# Altium footprint library PcbLib2.PcbLib: 11 footprints
Each footprint in its own frame and in the unit in brackets; x right, y up, seen from the top. Pads: shape width x height; smd on the part's side, far side on the other; paste and mask are expansions set on the pad; w line width, h text height; cw(c..) or ccw(c..) is an arc to the next point about the centre after c.
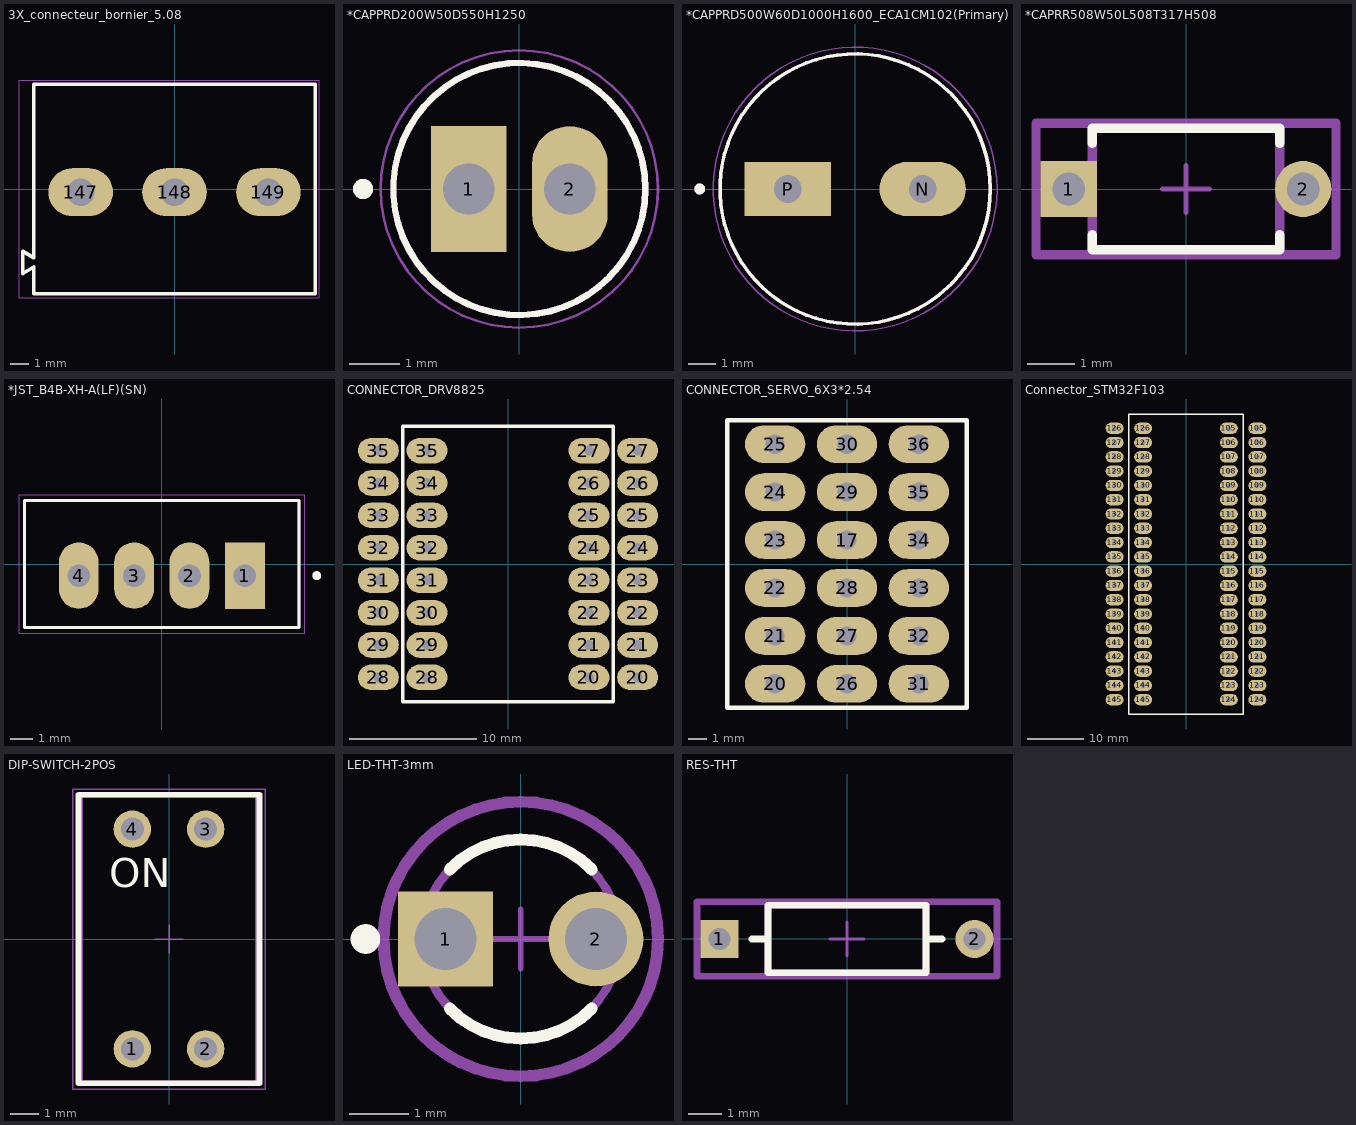
[diagram p0: the footprints below, top view; thin cyan lines are the x and y axes]

## 3X_connecteur_bornier_5.08 [mm] "Horizontal Cable Entry with Rising Cage Clamp, pitch 5.08mm, 03p"
height 18
pads (3):
  oval 3.5x2.6 hole 1.5: 147(-5.08,-0.175) 148(0,-0.175) 149(5.08,-0.175)
Top Overlay:
  lines w0.2: -7.621,-4.223 -8.22,-4.575 -8.22,-3.375 -7.621,-3.727 ; -7.62,-4.225 -7.62,-5.675 7.62,-5.675 7.62,5.675 -7.62,5.675 -7.62,-3.726
Top Component Center:
  lines w0.1: -0.5,0 0.5,0 ; 0,-0.5 0,0.5
Top Assembly:
  lines w0.1: -7.621,-4.223 -8.22,-4.575 -8.22,-3.375 -7.621,-3.727 ; -7.62,-4.225 -7.62,-5.675 7.62,-5.675 7.62,5.675 -7.62,5.675 -7.62,-3.726
Top Designator:
  text ".Designator" at -3.647,-0.357 h1
Top 3D Body:
  lines w0.1: -7.621,-4.223 -8.22,-4.575 -8.22,-3.375 -7.621,-3.727 ; -7.62,-4.225 -7.62,-5.675 7.62,-5.675 7.62,5.675 -7.62,5.675 -7.62,-3.726
Top Courtyard:
  lines w0.05: -8.42,-5.875 -8.42,5.875 7.82,5.875 7.82,-5.875 -8.42,-5.875
3D body "691236510003.stp": height 18.1, standoff -3.9, extent -8.22,-5.675 7.62,5.675

## *CAPPRD200W50D550H1250 [mm]
pads (2):
  rect 1.5x2.5 hole 1.02: 1(-1,0)
  oval 1.5x2.5 hole 1.02: 2(1,0)
Top Overlay:
  circle w0.2: c-3.1,0 r0.1
  circle w0.127: c0,0 r2.5
Mechanical 4:
  circle w0.2: c-3.1,0 r0.1
  circle w0.127: c0,0 r2.5
  circle w0.2: c-3.1,0 r0.1
  circle w0.127: c0,0 r2.5
Mechanical 16:
  circle w0.05: c0,0 r2.75
3D body "UVR1E100MDD.STEP": height 12.5, standoff -19, extent -2.5,-2.499 2.5,2.5

## *CAPPRD500W60D1000H1600_ECA1CM102(Primary) [mm]
pads (2):
  oval 3.2x2 hole 1.02: N(2.5,0)
  rect 3.2x2 hole 1.02: P(-2.5,0)
Top Overlay:
  circle w0.2: c-5.75,0 r0.1
  circle w0.127: c0,0 r5
Mechanical 4:
  circle w0.2: c-5.75,0 r0.1
  circle w0.127: c0,0 r5
  circle w0.2: c-5.75,0 r0.1
  circle w0.127: c0,0 r5
Mechanical 16:
  circle w0.05: c0,0 r5.25
3D body "ECA1CM102.STEP": height 16, standoff -17, extent -5,-4.999 5,4.999

## *CAPRR508W50L508T317H508 [mm]
pads (2):
  rect 1.2x1.2 hole 0.7 paste-2539.97 mask+0: 1(-2.5,0)
  round 1.2 hole 0.7 paste-2539.97 mask+0: 2(2.5,0)
Top Overlay:
  lines w0.2: -2,-0.975 -2,-1.3 2,-1.3 2,-0.975 ; -2,0.975 -2,1.3 2,1.3 2,0.975
Top Component Center:
  lines w0.1: -0.5,0 0.5,0 ; 0,-0.5 0,0.5
Top Assembly:
  lines w0.2: -3.2,-1.4 -3.2,1.4 3.2,1.4 3.2,-1.4 -3.2,-1.4
  text ".Designator" at 0,0.188 h1
Top 3D Body:
  lines w0.2: -2,-1.3 -2,1.3 2,1.3 2,-1.3 -2,-1.3
Top Courtyard:
  lines w0.2: -3.2,-1.4 -3.2,1.4 3.2,1.4 3.2,-1.4 -3.2,-1.4
3D body "Cap_Vishay_K104K15X7RF53H5_eec.STEP": height 0.25, standoff 0, extent -3.2,-1.4 3.2,1.4

## *JST_B4B-XH-A(LF)(SN) [mm]
pads (4):
  rect 1.8x3 hole 1.02: 1(3.75,-0.525)
  oval 1.8x3 hole 1.02: 2(1.25,-0.525) 3(-1.25,-0.525) 4(-3.75,-0.525)
Top Overlay:
  circle w0.2: c7,-0.525 r0.1
  lines w0.127: -6.2,-2.875 6.2,-2.875 6.2,2.875 -6.2,2.875 -6.2,-2.875
Mechanical 4:
  circle w0.2: c7,-0.525 r0.1
  circle w0.2: c7,-0.525 r0.1
  lines w0.127: -6.2,-2.875 6.2,-2.875 ; -6.2,-2.875 -6.2,2.875 ; -6.2,-2.875 6.2,-2.875 ; -6.2,-2.875 -6.2,2.875 ; -6.2,2.875 6.2,2.875 ; -6.2,2.875 6.2,2.875 ; 6.2,-2.875 6.2,2.875 ; 6.2,-2.875 6.2,2.875
Mechanical 16:
  lines w0.05: -6.45,-3.125 6.45,-3.125 6.45,3.125 -6.45,3.125 -6.45,-3.125
3D body "B4B-XH-A  (LF)(SN)--3DModel-STEP-56544.STEP": height 7, standoff -3.4, extent -6.2,-2.875 6.2,2.875

## CONNECTOR_DRV8825 [mm]
pads (32):
  oval 3.2x2 hole 0.762: 20(6.35,-8.89) 20(10.16,-8.89) 21(6.35,-6.35) 21(10.16,-6.35) 22(6.35,-3.81) 22(10.16,-3.81) 23(6.35,-1.27) 23(10.16,-1.27) 24(6.35,1.27) 24(10.16,1.27) 25(6.35,3.81) 25(10.16,3.81) 26(6.35,6.35) 26(10.16,6.35) 27(6.35,8.89) 27(10.16,8.89) 28(-10.16,-8.89) 28(-6.35,-8.89) 29(-10.16,-6.35) 29(-6.35,-6.35) 30(-10.16,-3.81) 30(-6.35,-3.81) 31(-10.16,-1.27) 31(-6.35,-1.27) 32(-10.16,1.27) 32(-6.35,1.27) 33(-10.16,3.81) 33(-6.35,3.81) 34(-10.16,6.35) 34(-6.35,6.35) 35(-10.16,8.89) 35(-6.35,8.89)
Top Overlay:
  lines w0.254: -8.255,-10.795 -8.255,10.795 8.255,10.795 8.255,-10.795 -8.255,-10.795
3D body "Stepper Motor Driver DRV8825.x_t": height 8.75, standoff -2.35, extent -7.625,-10.16 7.625,10.16

## CONNECTOR_SERVO_6X3*2.54 [mm]
pads (18):
  oval 3.2x2 hole 1.02: 17(0,1.27) 20(-3.81,-6.35) 21(-3.81,-3.81) 22(-3.81,-1.27) 23(-3.81,1.27) 24(-3.81,3.81) 25(-3.81,6.35) 26(0,-6.35) 27(0,-3.81) 28(0,-1.27) 29(0,3.81) 30(0,6.35) 31(3.81,-6.35) 32(3.81,-3.81) 33(3.81,-1.27) 34(3.81,1.27) 35(3.81,3.81) 36(3.81,6.35)
Top Overlay:
  lines w0.254: -6.35,-7.62 -6.35,7.62 6.35,7.62 6.35,-7.62 -6.35,-7.62
3D body "DS1021-1_6SF1-1.STEP": height 8.6, standoff -3, extent -1.27,-7.62 1.27,7.62
3D body "DS1021-1_6SF1-1.STEP": height 8.6, standoff -3, extent 2.54,-7.62 5.08,7.62
3D body "DS1021-1_6SF1-1.STEP": height 8.6, standoff -3, extent -5.08,-7.62 -2.54,7.62

## Connector_STM32F103 [mm]
pads (80):
  oval 3.2x2 hole 0.9: 105(7.62,24.13) 105(12.7,24.13) 106(7.62,21.59) 106(12.7,21.59) 107(7.62,19.05) 107(12.7,19.05) 108(7.62,16.51) 108(12.7,16.51) 109(7.62,13.97) 109(12.7,13.97) 110(7.62,11.43) 110(12.7,11.43) 111(7.62,8.89) 111(12.7,8.89) 112(7.62,6.35) 112(12.7,6.35) 113(7.62,3.81) 113(12.7,3.81) 114(7.62,1.27) 114(12.7,1.27) 115(7.62,-1.27) 115(12.7,-1.27) 116(7.62,-3.81) 116(12.7,-3.81) 117(7.62,-6.35) 117(12.7,-6.35) 118(7.62,-8.89) 118(12.7,-8.89) 119(7.62,-11.43) 119(12.7,-11.43) 120(7.62,-13.97) 120(12.7,-13.97) 121(7.62,-16.51) 121(12.7,-16.51) 122(7.62,-19.05) 122(12.7,-19.05) 123(7.62,-21.59) 123(12.7,-21.59) 124(7.62,-24.13) 124(12.7,-24.13) 126(-12.7,24.13) 126(-7.62,24.13) 127(-12.7,21.59) 127(-7.62,21.59) 128(-12.7,19.05) 128(-7.62,19.05) 129(-12.7,16.51) 129(-7.62,16.51) 130(-12.7,13.97) 130(-7.62,13.97) 131(-12.7,11.43) 131(-7.62,11.43) 132(-12.7,8.89) 132(-7.62,8.89) 133(-12.7,6.35) 133(-7.62,6.35) 134(-12.7,3.81) 134(-7.62,3.81) 135(-12.7,1.27) 135(-7.62,1.27) 136(-12.7,-1.27) 136(-7.62,-1.27) 137(-12.7,-3.81) 137(-7.62,-3.81) 138(-12.7,-6.35) 138(-7.62,-6.35) 139(-12.7,-8.89) 139(-7.62,-8.89) 140(-12.7,-11.43) 140(-7.62,-11.43) 141(-12.7,-13.97) 141(-7.62,-13.97) 142(-12.7,-16.51) 142(-7.62,-16.51) 143(-12.7,-19.05) 143(-7.62,-19.05) 144(-12.7,-21.59) 144(-7.62,-21.59) 145(-12.7,-24.13) 145(-7.62,-24.13)
Top Overlay:
  lines w0.254: -10.16,-26.67 -10.16,26.67 10.16,26.67 10.16,-26.67 -10.16,-26.67
3D body "stm32f103c8t6-board.SLDPRT": height 15.1, standoff -1.9, extent -11.525,-27.075 11.475,30.725

## DIP-SWITCH-2POS [mm]
height 5.7
pads (4):
  round 1.3 hole 0.8: 1(-1.27,-3.81) 2(1.27,-3.81) 3(1.27,3.81) 4(-1.27,3.81)
Top Overlay:
  lines w0.2: -3.14,-5 -3.14,5 3.14,5 3.14,-5 -3.14,-5
  text "ON" at -2.07,1.8 h1.02
Top Component Outline:
  lines w0.1: -3.04,-4.95 3.04,-4.95 3.04,4.95 -3.04,4.95 -3.04,-4.95
  text "2" at 0.9,-2.8 h1.02
  text "ON" at -2.07,1.8 h1.02
  text "1" at -1.5,-2.8 h1.02
Top Designator:
  text ".Designator" at -7.498,-0.5 h1.5
Top Courtyard:
  lines w0.05: -0.5,0 0.5,0 ; 0,-0.5 0,0.5 ; -3.34,-5.2 3.34,-5.2 3.34,5.2 -3.34,5.2 -3.34,-5.2
3D body "418117170902.stp": height 5.75, standoff -3.65, extent -3.04,-4.95 3.04,4.95

## LED-THT-3mm [mm]
pads (2):
  rect 1.6x1.6 hole 1.05 paste-2539.97 mask+0: 1(-1.27,0)
  round 1.6 hole 1.05 paste-2539.97 mask+0: 2(1.27,0)
Top Overlay:
  circle w0.25: c-2.625,0 r0.125
  lines w0.2: -1.2,-1.175 ccw(c0,-0.006) 1.2,-1.175 ; -1.2,1.175 cw(c0,0.006) 1.2,1.175
Top Component Center:
  lines w0.1: -0.5,0 0.5,0 ; 0,-0.5 0,0.5
Top Assembly:
  text ".Designator" at 0,0.188 h1
Top 3D Body:
  circle w0.15: c0,0 r1.675
Top Courtyard:
  lines w0.2: -2.319,0 cw(c0,0) 2.319,0 cw(c0,0) -2.319,0
3D body "Diode_Vishay_VSLB3940_eec.STEP": height 0.25, standoff 0, extent -2.319,-2.319 2.319,2.319

## RES-THT [mm]
pads (2):
  rect 1.15x1.15 hole 0.65 paste-2539.97 mask+0: 1(-3.835,0)
  round 1.15 hole 0.65 paste-2539.97 mask+0: 2(3.835,0)
Top Overlay:
  lines w0.2: -2.86,0 -2.375,0 ; 2.375,0 2.86,0 ; -2.375,-1.015 -2.375,1.015 2.375,1.015 2.375,-1.015 -2.375,-1.015
Top Component Center:
  lines w0.1: -0.5,0 0.5,0 ; 0,-0.5 0,0.5
Top Assembly:
  lines w0.2: -4.51,-1.115 -4.51,1.115 4.51,1.115 4.51,-1.115 -4.51,-1.115
  text ".Designator" at 0,0.188 h1
Top 3D Body:
  lines w0.2: -2.375,-1.015 -2.375,1.015 2.375,1.015 2.375,-1.015 -2.375,-1.015
Top Courtyard:
  lines w0.2: -4.51,-1.115 -4.51,1.115 4.51,1.115 4.51,-1.115 -4.51,-1.115
3D body "Res_Vishay_CMF5073K200FHEB_eec.STEP": height 0.25, standoff 0, extent -4.51,-1.115 4.51,1.115